# EAGLE library part ATTINY87/167 (library _mtvl_ic)
ATtiny87/167 8-bit Atmel Microcontrollerwith 8K/16KBytes In-System Programmable Flash and LIN Controller http://ww1.microchip.com/downloads/en/DeviceDoc/Atmel-8265-8-bit-AVR-Microcontroller-tinyAVR-ATtiny87-ATtiny167_datasheet.pdf
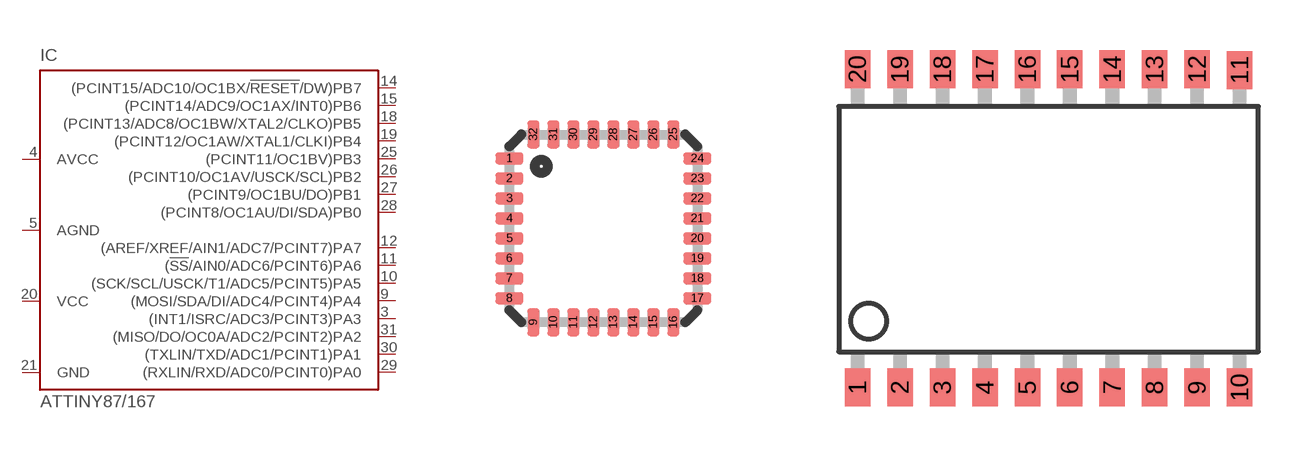
[diagram p45: symbol with the pads of MLF32; footprints MLF32, SO20L]

Designator prefix IC

## ATTINY87/167  [MLF32]
3  (INT1/ISRC/ADC3/PCINT3)PA3
4  AVCC
5  AGND
9  (MOSI/SDA/DI/ADC4/PCINT4)PA4
10  (SCK/SCL/USCK/T1/ADC5/PCINT5)PA5
11  (!SS!/AIN0/ADC6/PCINT6)PA6
12  (AREF/XREF/AIN1/ADC7/PCINT7)PA7
14  (PCINT15/ADC10/OC1BX/!RESET!/DW)PB7
15  (PCINT14/ADC9/OC1AX/INT0)PB6
18  (PCINT13/ADC8/OC1BW/XTAL2/CLKO)PB5
19  (PCINT12/OC1AW/XTAL1/CLKI)PB4
20  VCC  pwr
21  GND  pwr
25  (PCINT11/OC1BV)PB3
26  (PCINT10/OC1AV/USCK/SCL)PB2
27  (PCINT9/OC1BU/DO)PB1
28  (PCINT8/OC1AU/DI/SDA)PB0
29  (RXLIN/RXD/ADC0/PCINT0)PA0
30  (TXLIN/TXD/ADC1/PCINT1)PA1
31  (MISO/DO/OC0A/ADC2/PCINT2)PA2

## ATTINY87/167SOIC  [SO20L]
1  (RXLIN/RXD/ADC0/PCINT0)PA0
2  (TXLIN/TXD/ADC1/PCINT1)PA1
3  (MISO/DO/OC0A/ADC2/PCINT2)PA2
4  (INT1/ISRC/ADC3/PCINT3)PA3
5  AVCC
6  AGND
7  (MOSI/SDA/DI/ADC4/PCINT4)PA4
8  (SCK/SCL/USCK/T1/ADC5/PCINT5)PA5
9  (!SS!/AIN0/ADC6/PCINT6)PA6
10  (AREF/XREF/AIN1/ADC7/PCINT7)PA7
11  (PCINT15/ADC10/OC1BX/!RESET!/DW)PB7
12  (PCINT14/ADC9/OC1AX/INT0)PB6
13  (PCINT13/ADC8/OC1BW/XTAL2/CLKO)PB5
14  (PCINT12/OC1AW/XTAL1/CLKI)PB4
15  VCC  pwr
16  GND  pwr
17  (PCINT11/OC1BV)PB3
18  (PCINT10/OC1AV/USCK/SCL)PB2
19  (PCINT9/OC1BU/DO)PB1
20  (PCINT8/OC1AU/DI/SDA)PB0

## ATTINY87/167TSSOP  [TSSOP20]
Pads as for SO20L

## Footprint MLF32 (pad centres in mm)
32M1-A Micro Lead Frame package (MLF)
smd 0.7 x 0.3: 1 -2.35,1.75; 2 -2.35,1.25; 3 -2.35,0.75; 4 -2.35,0.25; 5 -2.35,-0.25; 6 -2.35,-0.75; 7 -2.35,-1.25; 8 -2.35,-1.75; 17 2.35,-1.75; 18 2.35,-1.25; 19 2.35,-0.75; 20 2.35,-0.25; 21 2.35,0.25; 22 2.35,0.75; 23 2.35,1.25; 24 2.35,1.75
smd 0.3 x 0.7: 9 -1.75,-2.35; 10 -1.25,-2.35; 11 -0.75,-2.35; 12 -0.25,-2.35; 13 0.25,-2.35; 14 0.75,-2.35; 15 1.25,-2.35; 16 1.75,-2.35; 25 1.75,2.35; 26 1.25,2.35; 27 0.75,2.35; 28 0.25,2.35; 29 -0.25,2.35; 30 -0.75,2.35; 31 -1.25,2.35; 32 -1.75,2.35

## Footprint SO20L (pad centres in mm)
Small Outline Package SOIC 0.300"
smd 0.762 x 1.143: 1 -5.08,-5.131; 2 -3.81,-5.131; 3 -2.54,-5.131; 4 -1.27,-5.131; 5 0,-5.131; 6 1.27,-5.131; 7 2.54,-5.131; 8 3.81,-5.131; 9 5.08,-5.131; 10 6.35,-5.131; 11 6.35,4.369; 12 5.08,4.394; 13 3.81,4.394; 14 2.54,4.394; 15 1.27,4.394; 16 0,4.394; 17 -1.27,4.394; 18 -2.54,4.394; 19 -3.81,4.394; 20 -5.08,4.394

## Footprint TSSOP20 (pad centres in mm)
Thin Shrink Small Outline Plastic 20 MAX3223-MAX3243.pdf
smd 0.305 x 0.991: 1 -2.925,-2.918; 2 -2.275,-2.918; 3 -1.625,-2.918; 4 -0.975,-2.918; 5 -0.325,-2.918; 6 0.325,-2.918; 7 0.975,-2.918; 8 1.625,-2.918; 9 2.275,-2.918; 10 2.925,-2.918; 11 2.925,2.918; 12 2.275,2.918; 13 1.625,2.918; 14 0.975,2.918; 15 0.325,2.918; 16 -0.325,2.918; 17 -0.975,2.918; 18 -1.625,2.918; 19 -2.275,2.918; 20 -2.925,2.918